# Altium footprint library STM32_PLC.PcbLib: 129 footprints (part 5 of 9)
Each footprint in its own frame and in the unit in brackets; x right, y up, seen from the top. Pads: shape width x height; smd on the part's side, far side on the other; paste and mask are expansions set on the pad; w line width, h text height; cw(c..) or ccw(c..) is an arc to the next point about the centre after c.
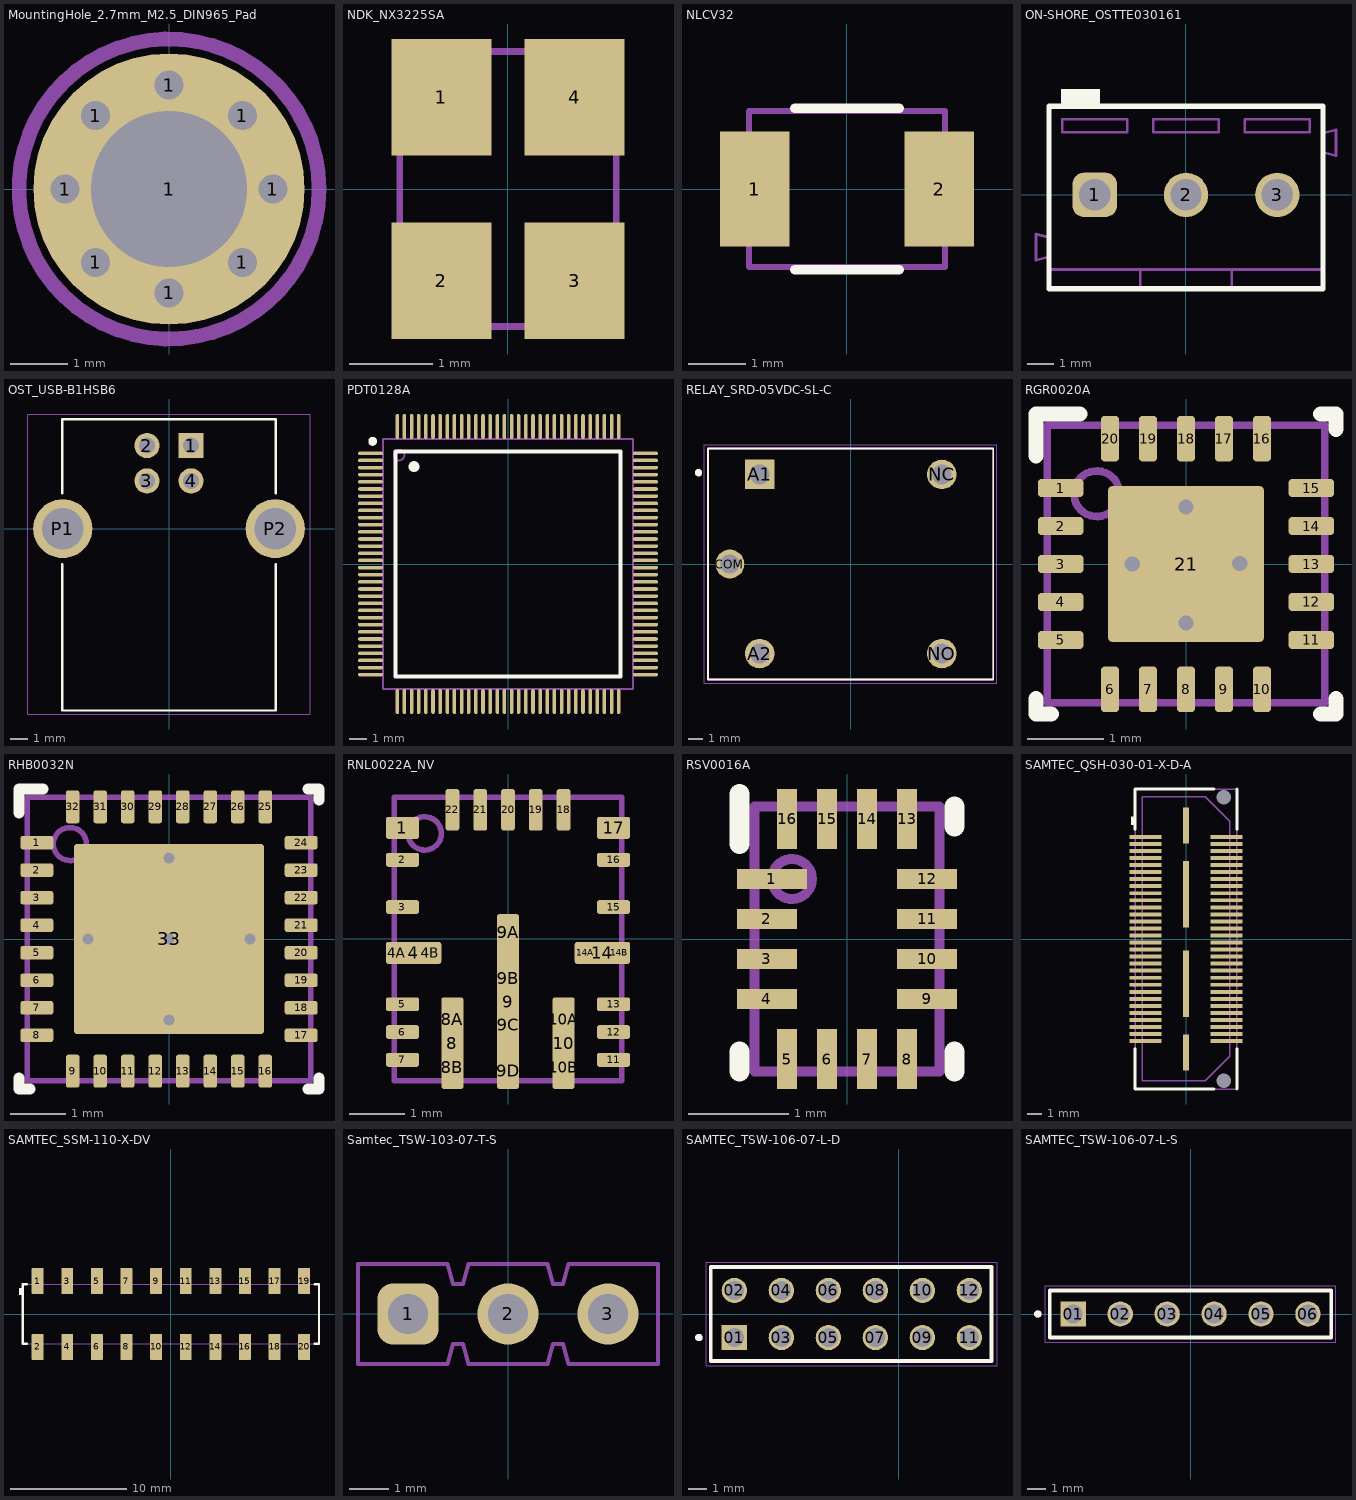
[diagram p4: the footprints below, top view; thin cyan lines are the x and y axes]

## MountingHole_2.7mm_M2.5_DIN965_Pad [mm]
pads (9):
  round 1 hole 0.5: 1(-1.8,0) 1(-1.273,-1.273) 1(-1.273,1.273) 1(0,-1.8) 1(0,1.8) 1(1.273,-1.273) 1(1.273,1.273) 1(1.8,0)
  round 4.7 hole 2.7: 1(0,0)
Mechanical 6:
  text "'.Designator'" at -1.139,-0.398 h1
Mechanical 13:
  circle w0.254: c0,0 r2.6

## NDK_NX3225SA [mm] "NDK"
height 0.6
pads (4):
  rect 1.2x1.4 smd: 1(-0.8,1.1) 2(-0.8,-1.1) 3(0.8,-1.1) 4(0.8,1.1)
Mechanical 5:
  circle w0.08: c-0.8,1.1 r0.2
  lines w0.08: -1.3,-1.65 -1.3,1.65 1.3,1.65 1.3,-1.65 -1.3,-1.65
  text ".Designator" at 0.401,-0.915 h0.7
3D body "NDK_NX3225SA.stp": height 0.7, standoff 0, extent -1.3,-1.65 1.3,1.65

## NLCV32 [mm] "TDK"
height 2.4
pads (2):
  rect 1.2x2 smd: 1(-1.6,0) 2(1.6,0)
Top Overlay:
  lines w0.17: -0.9,-1.4 0.9,-1.4 ; -0.9,1.4 0.9,1.4
Mechanical 5:
  lines w0.1: -1.7,-1.35 1.7,-1.35 1.7,1.35 -1.7,1.35 -1.7,-1.35
  text ".Designator" at -1.081,-0.386 h0.9
3D body: height 2.4, standoff 0, extent -1.699,-1.349 1.699,1.349

## ON-SHORE_OSTTE030161 [mm] "Terminal Block, 3.5mm, 3x1, TH"
height 8.5
pads (3):
  rrect50% 1.7x1.7 hole 1.2: 1(-3.5,0)
  round 1.7 hole 1.2: 2(0,0) 3(3.5,0)
Top Overlay:
  rectangle: -4.8,3.45 -3.3,4.05
  lines w0.2: -5.25,-3.6 5.25,-3.6 5.25,3.4 -5.25,3.4 -5.25,-3.6
Mechanical 5:
  lines w0.1: 5.25,1.634 5.75,1.5 5.75,2.5 5.25,2.366 ; -5.25,-2.859 -1.75,-2.859 ; -5.25,-2.859 -5.25,-3.6 -1.75,-3.6 ; -5.25,-2.859 -5.25,3.4 -1.75,3.4 1.75,3.4 5.25,3.4 5.25,-2.859 ; -1.75,-3.6 -1.75,-2.859 ; -1.75,-3.6 -1.75,-2.859 ; -1.75,-3.6 1.75,-3.6 ; -1.75,-2.859 1.75,-2.859 ; 1.75,-3.6 1.75,-2.859 ; 1.75,-3.6 1.75,-2.859 ; 1.75,-3.6 5.25,-3.6 5.25,-2.859 ; 1.75,-2.859 5.25,-2.859 ; -5.75,-2.5 -5.75,-1.5 -5.25,-1.634 -5.25,-2.366 -5.75,-2.5 ; -4.75,2.4 -2.25,2.4 -2.25,2.9 -4.75,2.9 -4.75,2.4 ; -1.25,2.4 1.25,2.4 1.25,2.9 -1.25,2.9 -1.25,2.4 ; 2.25,2.4 4.75,2.4 4.75,2.9 2.25,2.9 2.25,2.4
  text ".Designator" at -1.234,0.972 h1.85
3D body "OSTTE030161.stp": height 8.4, standoff -3.8, extent -5.75,-3.6 5.75,3.4

## OST_USB-B1HSB6 [mm]
pads (6):
  rect 1.428x1.428 / inner round 1.428 / far side rect 1.428x1.428 hole 0.92: 1(1.25,4.71)
  round 1.428 hole 0.92: 2(-1.25,4.71) 3(-1.25,2.71) 4(1.25,2.71)
  round 3.346 hole 2.33: P1(-6.02,0) P2(6.02,0)
Top Overlay:
  lines w0.127: -6.05,-2 -6.05,-10.3 6.05,-10.3 6.05,-2 ; -6.05,2 -6.05,6.2 6.05,6.2 6.05,2
Mechanical 15:
  lines w0.05: -8,-10.5 8,-10.5 8,6.5 -8,6.5 -8,-10.5
3D body "step_temp.STEP": height 10.9, standoff -3.6, extent -7.42,-10.25 7.42,6.25

## PDT0128A [mm] "Thin QFP, 128-Leads, Body 14x14mm, Pitch 0.4mm"
height 1.2
pads (128):
  oval 1.4x0.2 smd: 1(-7.7,6.2) 2(-7.7,5.8) 3(-7.7,5.4) 4(-7.7,5) 5(-7.7,4.6) 6(-7.7,4.2) 7(-7.7,3.8) 8(-7.7,3.4) 9(-7.7,3) 10(-7.7,2.6) 11(-7.7,2.2) 12(-7.7,1.8) 13(-7.7,1.4) 14(-7.7,1) 15(-7.7,0.6) 16(-7.7,0.2) 17(-7.7,-0.2) 18(-7.7,-0.6) 19(-7.7,-1) 20(-7.7,-1.4) 21(-7.7,-1.8) 22(-7.7,-2.2) 23(-7.7,-2.6) 24(-7.7,-3) 25(-7.7,-3.4) 26(-7.7,-3.8) 27(-7.7,-4.2) 28(-7.7,-4.6) 29(-7.7,-5) 30(-7.7,-5.4) 31(-7.7,-5.8) 32(-7.7,-6.2) 65(7.7,-6.2) 66(7.7,-5.8) 67(7.7,-5.4) 68(7.7,-5) 69(7.7,-4.6) 70(7.7,-4.2) 71(7.7,-3.8) 72(7.7,-3.4) 73(7.7,-3) 74(7.7,-2.6) 75(7.7,-2.2) 76(7.7,-1.8) 77(7.7,-1.4) 78(7.7,-1) 79(7.7,-0.6) 80(7.7,-0.2) 81(7.7,0.2) 82(7.7,0.6) 83(7.7,1) 84(7.7,1.4) 85(7.7,1.8) 86(7.7,2.2) 87(7.7,2.6) 88(7.7,3) 89(7.7,3.4) 90(7.7,3.8) 91(7.7,4.2) 92(7.7,4.6) 93(7.7,5) 94(7.7,5.4) 95(7.7,5.8) 96(7.7,6.2)
  oval 0.2x1.4 smd: 33(-6.2,-7.7) 34(-5.8,-7.7) 35(-5.4,-7.7) 36(-5,-7.7) 37(-4.6,-7.7) 38(-4.2,-7.7) 39(-3.8,-7.7) 40(-3.4,-7.7) 41(-3,-7.7) 42(-2.6,-7.7) 43(-2.2,-7.7) 44(-1.8,-7.7) 45(-1.4,-7.7) 46(-1,-7.7) 47(-0.6,-7.7) 48(-0.2,-7.7) 49(0.2,-7.7) 50(0.6,-7.7) 51(1,-7.7) 52(1.4,-7.7) 53(1.8,-7.7) 54(2.2,-7.7) 55(2.6,-7.7) 56(3,-7.7) 57(3.4,-7.7) 58(3.8,-7.7) 59(4.2,-7.7) 60(4.6,-7.7) 61(5,-7.7) 62(5.4,-7.7) 63(5.8,-7.7) 64(6.2,-7.7) 97(6.2,7.7) 98(5.8,7.7) 99(5.4,7.7) 100(5,7.7) 101(4.6,7.7) 102(4.2,7.7) 103(3.8,7.7) 104(3.4,7.7) 105(3,7.7) 106(2.6,7.7) 107(2.2,7.7) 108(1.8,7.7) 109(1.4,7.7) 110(1,7.7) 111(0.6,7.7) 112(0.2,7.7) 113(-0.2,7.7) 114(-0.6,7.7) 115(-1,7.7) 116(-1.4,7.7) 117(-1.8,7.7) 118(-2.2,7.7) 119(-2.6,7.7) 120(-3,7.7) 121(-3.4,7.7) 122(-3.8,7.7) 123(-4.2,7.7) 124(-4.6,7.7) 125(-5,7.7) 126(-5.4,7.7) 127(-5.8,7.7) 128(-6.2,7.7)
Top Overlay:
  circle w0.25: c-7.575,6.87 r0.125
  lines w0.2: -6.3,-6.3 6.3,-6.3 6.3,6.3 -6.3,6.3 -6.3,-6.3
  lines w0.6: -5.265,5.446 ccw(c-5.564,5.462) -5.264,5.462
Mechanical 5:
  circle w0.1: c-6.1,6.1 r0.3
  lines w0.1: -7,-7 7,-7 7,7 -7,7 -7,-7
  text ".Designator" at 1.275,-1.498 h1.02
3D body "PDT0128A.stp": height 1.07, standoff 0, extent -8,-8 8,8

## RELAY_SRD-05VDC-SL-C [mm]
pads (5):
  rect 1.98x1.98 / inner round 1.98 / far side rect 1.98x1.98 hole 1.32: A1(-6.1,6)
  round 1.98 hole 1.32: A2(-6.1,-6) NC(6.1,6) NO(6.1,-6)
  round 1.935 hole 1.29: COM(-8.1,0)
Top Overlay:
  circle w0.3: c-10.2,6.119 r0.1
  lines w0.127: -9.55,-7.75 -9.55,7.75 9.55,7.75 9.55,-7.75 -9.55,-7.75
Mechanical 13:
  lines w0.127: -9.55,-7.75 -9.55,7.75 9.55,7.75 9.55,-7.75 -9.55,-7.75
Mechanical 15:
  lines w0.05: -9.8,-8 -9.8,8 9.8,8 9.8,-8 -9.8,-8
3D body "step_temp.STEP": height 15.8, standoff -3, extent -9.6,-7.8 9.6,7.8

## RGR0020A [mm] "QFN, 20-Leads, Body 3.5x3.5mm, Pitch 0.5mm, Thermal Pad 2.05x2.05mm, TI Recommended"
height 1
pads (21):
  rrect42% 0.6x0.24 smd: 1(-1.65,1) 2(-1.65,0.5) 3(-1.65,0) 4(-1.65,-0.5) 5(-1.65,-1) 11(1.65,-1) 12(1.65,-0.5) 13(1.65,0) 14(1.65,0.5) 15(1.65,1)
  rrect42% 0.24x0.6 smd: 6(-1,-1.65) 7(-0.5,-1.65) 8(0,-1.65) 9(0.5,-1.65) 10(1,-1.65) 16(1,1.65) 17(0.5,1.65) 18(0,1.65) 19(-0.5,1.65) 20(-1,1.65)
  rrect5% 2.05x2.05 smd paste-1.025: 21(0,0)
via 0,-0.775 diameter 0.5 hole 0.2
via 0,0.751 diameter 0.5 hole 0.2
via -0.707,0 diameter 0.5 hole 0.2
via 0.708,0.006 diameter 0.5 hole 0.2
Top Overlay:
  lines w0.2: -1.975,-1.775 -1.975,-1.975 -1.775,-1.975 ; -1.975,1.425 -1.975,1.975 -1.4,1.975 ; 1.775,-1.975 1.975,-1.975 1.975,-1.775 ; 1.775,1.975 1.975,1.975 1.975,1.775
Top Paste:
  region: 0.1,-0.15 0.1,-0.97 0.1,-0.98 0.108,-0.998 0.122,-1.012 0.14,-1.02 0.15,-1.02 0.97,-1.02 0.98,-1.02 0.998,-1.012 1.012,-0.998 1.02,-0.98 1.02,-0.97 1.02,-0.15 1.02,-0.14 1.012,-0.122 0.998,-0.108 0.98,-0.1 0.97,-0.1 0.15,-0.1 0.14,-0.1 0.122,-0.108 0.108,-0.122 0.1,-0.14
  region: -0.1,-0.15 -0.1,-0.97 -0.1,-0.98 -0.108,-0.998 -0.122,-1.012 -0.14,-1.02 -0.15,-1.02 -0.97,-1.02 -0.98,-1.02 -0.998,-1.012 -1.012,-0.998 -1.02,-0.98 -1.02,-0.97 -1.02,-0.15 -1.02,-0.14 -1.012,-0.122 -0.998,-0.108 -0.98,-0.1 -0.97,-0.1 -0.15,-0.1 -0.14,-0.1 -0.122,-0.108 -0.108,-0.122 -0.1,-0.14
  region: -0.1,0.15 -0.1,0.97 -0.1,0.98 -0.108,0.998 -0.122,1.012 -0.14,1.02 -0.15,1.02 -0.97,1.02 -0.98,1.02 -0.998,1.012 -1.012,0.998 -1.02,0.98 -1.02,0.97 -1.02,0.15 -1.02,0.14 -1.012,0.122 -0.998,0.108 -0.98,0.1 -0.97,0.1 -0.15,0.1 -0.14,0.1 -0.122,0.108 -0.108,0.122 -0.1,0.14
  region: 0.1,0.15 0.1,0.97 0.1,0.98 0.108,0.998 0.122,1.012 0.14,1.02 0.15,1.02 0.97,1.02 0.98,1.02 0.998,1.012 1.012,0.998 1.02,0.98 1.02,0.97 1.02,0.15 1.02,0.14 1.012,0.122 0.998,0.108 0.98,0.1 0.97,0.1 0.15,0.1 0.14,0.1 0.122,0.108 0.108,0.122 0.1,0.14
Mechanical 5:
  circle w0.1: c-1.175,0.925 r0.3
  lines w0.1: -1.825,-1.825 -1.825,1.825 1.825,1.825 1.825,-1.825 -1.825,-1.825
  text ".Designator" at 0.436,-0.688 h0.76
3D body "RGR0020A.stp": height 1, standoff 0, extent -1.75,-1.75 1.75,1.75

## RHB0032N [mm] "QFN, 32-Leads, Body 5x5mm, Pitch 0.5mm, Thermal Pad 3.45x3.45mm"
height 0.9
pads (37):
  rrect40% 0.6x0.25 smd: 1(-2.4,1.75) 2(-2.4,1.25) 3(-2.4,0.75) 4(-2.4,0.25) 5(-2.4,-0.25) 6(-2.4,-0.75) 7(-2.4,-1.25) 8(-2.4,-1.75) 17(2.4,-1.75) 18(2.4,-1.25) 19(2.4,-0.75) 20(2.4,-0.25) 21(2.4,0.25) 22(2.4,0.75) 23(2.4,1.25) 24(2.4,1.75)
  rrect40% 0.25x0.6 smd: 9(-1.75,-2.4) 10(-1.25,-2.4) 11(-0.75,-2.4) 12(-0.25,-2.4) 13(0.25,-2.4) 14(0.75,-2.4) 15(1.25,-2.4) 16(1.75,-2.4) 25(1.75,2.4) 26(1.25,2.4) 27(0.75,2.4) 28(0.25,2.4) 29(-0.25,2.4) 30(-0.75,2.4) 31(-1.25,2.4) 32(-1.75,2.4)
  rrect3% 3.45x3.45 smd paste-1.725: 33(0,0)
  rrect50% 1.49x1.49 on Top Paste: ""(-0.845,-0.845) ""(-0.845,0.845) ""(0.845,-0.845) ""(0.845,0.845)
via 0,-1.475 diameter 0.5 hole 0.2
via 1.475,0 diameter 0.5 hole 0.2
via 0,0 diameter 0.5 hole 0.2
via -1.475,0 diameter 0.5 hole 0.2
via 0,1.475 diameter 0.5 hole 0.2
Top Overlay:
  lines w0.2: -2.725,-2.525 -2.725,-2.725 -2.525,-2.725 ; -2.725,2.29 -2.725,2.725 -2.29,2.725 ; 2.525,-2.725 2.725,-2.725 2.725,-2.525 ; 2.525,2.725 2.725,2.725 2.725,2.525
Mechanical 5:
  circle w0.1: c-1.8,1.725 r0.3
  lines w0.1: -2.575,-2.575 -2.575,2.575 ; -2.575,-2.575 -2.575,2.575 ; -2.575,-2.575 2.575,-2.575 ; -2.575,-2.575 2.575,-2.575 ; -2.575,2.575 2.575,2.575 ; -2.575,2.575 2.575,2.575 ; 2.575,-2.575 2.575,2.575 ; 2.575,-2.575 2.575,2.575
  text ".Designator" at -0.448,0.654 h1.02
3D body: height 0.9, standoff 0.9, extent -2.099,1.426 -1.501,2.024
3D body "RHB0032N.stp": height 0.9, standoff 0, extent -2.5,-2.5 2.5,2.5

## RNL0022A_NV [mm] "VQFN-HR-22"
height 0.9
pads (34):
  rrect25% 0.6x0.4 smd: 1(-1.9,2) 17(1.9,2)
  rrect40% 0.6x0.25 smd: 2(-1.9,1.425) 3(-1.9,0.575) 5(-1.9,-1.175) 6(-1.9,-1.675) 7(-1.9,-2.175) 11(1.9,-2.175) 12(1.9,-1.675) 13(1.9,-1.175) 15(1.9,0.575) 16(1.9,1.425)
  rrect25% 1x0.4 smd paste-0.25: 4(-1.7,-0.25) 14(1.7,-0.25)
  rrect50% 0.4x0.4 on Top Paste: 4A(-2,-0.25) 4B(-1.4,-0.25) 14A(1.4,-0.25) 14B(2,-0.25)
  rrect25% 0.4x1.65 smd paste-0.25: 8(-1,-1.875) 10(1,-1.875)
  rrect50% 0.4x0.66 on Top Paste: 8A(-1,-1.445) 8B(-1,-2.305) 10A(1,-1.445) 10B(1,-2.305)
  rrect25% 0.4x3.15 smd paste-0.25: 9(0,-1.125)
  rrect50% 0.4x0.63 on Top Paste: 9A(0,0.12) 9B(0,-0.71) 9C(0,-1.54) 9D(0,-2.37)
  rrect40% 0.25x0.75 smd: 18(1,2.325) 19(0.5,2.325) 20(0,2.325) 21(-0.5,2.325) 22(-1,2.325)
Mechanical 5:
  circle w0.1: c-1.5,1.9 r0.3
  lines w0.1: -2.05,-2.55 -2.05,2.55 2.05,2.55 2.05,-2.55 -2.05,-2.55
  text ".Designator" at 0.692,0.589 h1.02
3D body "RNL0022A.stp": height 0.9, standoff 0, extent -2,-2.5 2,2.5

## RSV0016A [mm] "QFN, 16-Leads, Body 1.8x2.6mm, Pitch 0.4mm, TI Recommended"
height 0.55
pads (16):
  rect 0.7x0.2 smd: 1(-0.75,0.6)
  rect 0.6x0.2 smd: 2(-0.8,0.2) 3(-0.8,-0.2) 4(-0.8,-0.6) 9(0.8,-0.6) 10(0.8,-0.2) 11(0.8,0.2) 12(0.8,0.6)
  rect 0.2x0.6 smd: 5(-0.6,-1.2) 6(-0.2,-1.2) 7(0.2,-1.2) 8(0.6,-1.2) 13(0.6,1.2) 14(0.2,1.2) 15(-0.2,1.2) 16(-0.6,1.2)
Top Overlay:
  lines w0.2: -1.075,-1.325 -1.075,-1.125 ; -1.075,0.95 -1.075,1.45 ; 1.075,-1.325 1.075,-1.125 ; 1.075,1.125 1.075,1.325
Mechanical 5:
  circle w0.1: c-0.55,0.6 r0.2
  lines w0.1: -0.925,-1.325 0.925,-1.325 0.925,1.325 -0.925,1.325 -0.925,-1.325
  text ".Designator" at 0.559,-0.737 h0.38
3D body: height 0.55, standoff 0, extent -0.925,-1.325 0.925,1.325
3D body: height 0.56, standoff 0.4, extent -0.749,0.401 -0.351,0.799

## SAMTEC_QSH-030-01-X-D-A [mm] "Receptacle, 0.5 mm, 30x2, TH"
height 3.327
pads (66):
  rect 2.27x0.279 smd: 1(-2.865,7.25) 2(2.865,7.25) 3(-2.865,6.75) 4(2.865,6.75) 5(-2.865,6.25) 6(2.865,6.25) 7(-2.865,5.75) 8(2.865,5.75) 9(-2.865,5.25) 10(2.865,5.25) 11(-2.865,4.75) 12(2.865,4.75) 13(-2.865,4.25) 14(2.865,4.25) 15(-2.865,3.75) 16(2.865,3.75) 17(-2.865,3.25) 18(2.865,3.25) 19(-2.865,2.75) 20(2.865,2.75) 21(-2.865,2.25) 22(2.865,2.25) 23(-2.865,1.75) 24(2.865,1.75) 25(-2.865,1.25) 26(2.865,1.25) 27(-2.865,0.75) 28(2.865,0.75) 29(-2.865,0.25) 30(2.865,0.25) 31(-2.865,-0.25) 32(2.865,-0.25) 33(-2.865,-0.75) 34(2.865,-0.75) 35(-2.865,-1.25) 36(2.865,-1.25) 37(-2.865,-1.75) 38(2.865,-1.75) 39(-2.865,-2.25) 40(2.865,-2.25) 41(-2.865,-2.75) 42(2.865,-2.75) 43(-2.865,-3.25) 44(2.865,-3.25) 45(-2.865,-3.75) 46(2.865,-3.75) 47(-2.865,-4.25) 48(2.865,-4.25) 49(-2.865,-4.75) 50(2.865,-4.75) 51(-2.865,-5.25) 52(2.865,-5.25) 53(-2.865,-5.75) 54(2.865,-5.75) 55(-2.865,-6.25) 56(2.865,-6.25) 57(-2.865,-6.75) 58(2.865,-6.75) 59(-2.865,-7.25) 60(2.865,-7.25)
  round 0 hole 1.02 unplated mask+0.127: MH1(2.67,10.065) MH2(2.67,-10.065)
  rect 0.43x2.54 smd: MP1(0,8.065) MP4(0,-8.065)
  rect 0.43x4.7 smd: MP2(0,3.175) MP3(0,-3.175)
Top Overlay:
  rectangle: -3.9,8.1 -3.62,8.7
  lines w0.2: -3.62,-7.789 -3.62,-10.655 2,-10.655 ; -3.62,7.789 -3.62,10.655 2,10.655 ; 3.62,-10.655 3.62,-7.789 ; 3.62,7.789 3.62,10.655
Mechanical 5:
  drawing of 190 lines, arcs and shapes, not listed
  text ".Designator" at 0.464,-0.829 h1.02
3D body "Samtec-QSH-030-01-L-D-A.stp": height 3.25, standoff -0.75, extent -3.746,-10.636 3.747,10.674

## SAMTEC_SSM-110-X-DV [mm] "Receptacle, 2.54mm, 10x2, SMT"
height 7.47
pads (20):
  rrect10% 1.02x2.22 smd: 1(-11.43,2.825) 2(-11.43,-2.825) 3(-8.89,2.825) 4(-8.89,-2.825) 5(-6.35,2.825) 6(-6.35,-2.825) 7(-3.81,2.825) 8(-3.81,-2.825) 9(-1.27,2.825) 10(-1.27,-2.825) 11(1.27,2.825) 12(1.27,-2.825) 13(3.81,2.825) 14(3.81,-2.825) 15(6.35,2.825) 16(6.35,-2.825) 17(8.89,2.825) 18(8.89,-2.825) 19(11.43,2.825) 20(11.43,-2.825)
Top Overlay:
  rectangle: -13.025,1.625 -12.675,2.225
  lines w0.2: -12.34,-2.54 -12.7,-2.54 -12.7,2.54 -12.34,2.54 ; 12.34,-2.54 12.7,-2.54 12.7,2.54 12.34,2.54
Mechanical 5:
  lines w0.1: -11.684,-2.54 -11.684,-3.518 -11.176,-3.518 -11.176,-2.54 ; -11.684,2.54 -11.684,3.518 -11.176,3.518 -11.176,2.54 ; -9.144,-2.54 -9.144,-3.518 -8.636,-3.518 -8.636,-2.54 ; -9.144,2.54 -9.144,3.518 -8.636,3.518 -8.636,2.54 ; -6.604,-2.54 -6.604,-3.518 -6.096,-3.518 -6.096,-2.54 ; -6.604,2.54 -6.604,3.518 -6.096,3.518 -6.096,2.54 ; -4.064,-2.54 -4.064,-3.518 -3.556,-3.518 -3.556,-2.54 ; -4.064,2.54 -4.064,3.518 -3.556,3.518 -3.556,2.54 ; -1.524,-2.54 -1.524,-3.518 -1.016,-3.518 -1.016,-2.54 ; -1.524,2.54 -1.524,3.518 -1.016,3.518 -1.016,2.54 ; 1.016,-2.54 1.016,-3.518 1.524,-3.518 1.524,-2.54 ; 1.016,2.54 1.016,3.518 1.524,3.518 1.524,2.54 ; 3.556,-2.54 3.556,-3.518 4.064,-3.518 4.064,-2.54 ; 3.556,2.54 3.556,3.518 4.064,3.518 4.064,2.54 ; 6.096,-2.54 6.096,-3.518 6.604,-3.518 6.604,-2.54 ; 6.096,2.54 6.096,3.518 6.604,3.518 6.604,2.54 ; 8.636,-2.54 8.636,-3.518 9.144,-3.518 9.144,-2.54 ; 8.636,2.54 8.636,3.518 9.144,3.518 9.144,2.54 ; 11.176,-2.54 11.176,-3.518 11.684,-3.518 11.684,-2.54 ; 11.176,2.54 11.176,3.518 11.684,3.518 11.684,2.54 ; -12.7,-2.54 12.7,-2.54 12.7,2.54 -12.7,2.54 -12.7,-2.54
  text ".Designator" at -0.47,0.14 h1.02
3D body "SSM-110-S-DV.stp": height 7.42, standoff 0, extent -12.7,-3.518 12.7,3.518

## Samtec_TSW-103-07-T-S [mm] "Header, 2.54 mm, 3x1, TH"
height 8.64
pads (3):
  rrect50% 1.55x1.55 hole 1.02: 1(-2.54,0)
  round 1.55 hole 1.02: 2(0,0) 3(2.54,0)
Mechanical 5:
  lines w0.1: -3.81,-1.27 -3.81,1.27 -1.534,1.27 -1.397,0.762 -1.27,0.762 -1.143,0.762 -1.006,1.27 1.006,1.27 1.143,0.762 1.27,0.762 1.397,0.762 1.534,1.27 3.81,1.27 3.81,-1.27 1.534,-1.27 1.397,-0.762 1.27,-0.762 1.143,-0.762 1.006,-1.27 -1.006,-1.27 -1.143,-0.762 -1.27,-0.762 -1.397,-0.762 -1.534,-1.27 -3.81,-1.27
  text ".Designator" at 0.637,0.475 h1.02
3D body "TSW-103-07-T-S.stp": height 8.39, standoff -2.53, extent -3.81,-1.27 3.81,1.27

## SAMTEC_TSW-106-07-L-D [mm]
pads (12):
  rect 1.37x1.37 hole 1.02: 01(-8.89,-1.27)
  round 1.37 hole 1.02: 02(-8.89,1.27) 03(-6.35,-1.27) 04(-6.35,1.27) 05(-3.81,-1.27) 06(-3.81,1.27) 07(-1.27,-1.27) 08(-1.27,1.27) 09(1.27,-1.27) 10(1.27,1.27) 11(3.81,-1.27) 12(3.81,1.27)
Top Overlay:
  circle w0.2: c-10.81,-1.27 r0.1
  lines w0.2: -10.16,-2.54 -10.16,2.54 5,2.54 5,-2.54 -10.16,-2.54
Mechanical 13:
  circle w0.2: c-10.81,-1.27 r0.1
  lines w0.1: -10.16,-2.54 -10.16,2.54 ; -10.16,-2.54 -10.16,2.54 ; -10.16,-2.54 5,-2.54 ; -10.16,2.54 5,2.54 ; -10.16,2.54 5,2.54 ; 5,-2.54 5,2.54 ; 5,-2.54 5,2.54
Mechanical 15:
  lines w0.05: -10.41,-2.79 -10.41,2.79 5.3,2.79 5.3,-2.79 -10.41,-2.79

## SAMTEC_TSW-106-07-L-S [mm]
pads (6):
  rect 1.37x1.37 hole 1.02: 01(-6.35,0)
  round 1.37 hole 1.02: 02(-3.81,0) 03(-1.27,0) 04(1.27,0) 05(3.81,0) 06(6.35,0)
Top Overlay:
  circle w0.2: c-8.27,0 r0.1
  lines w0.2: -7.62,-1.27 -7.62,1.27 7.62,1.27 7.62,-1.27 -7.62,-1.27
Mechanical 13:
  circle w0.2: c-8.27,0 r0.1
  lines w0.1: -7.62,-1.27 -7.62,1.27 ; -7.62,-1.27 7.62,-1.27 ; -7.62,-1.27 -7.62,1.27 ; -7.62,1.27 7.62,1.27 ; -7.62,1.27 7.62,1.27 ; 7.62,-1.27 7.62,1.27 ; 7.62,-1.27 7.62,1.27
Mechanical 15:
  lines w0.05: -7.87,-1.52 -7.87,1.52 7.87,1.52 7.87,-1.52 -7.87,-1.52
3D body "PinHeader_1x06_P2.54mm_Vertical.step": height 8.54, standoff -3, extent -7.62,-1.27 7.62,1.27